# Altium footprint library IND 0201.PcbLib: 1 footprints
Each footprint in its own frame and in the unit in brackets; x right, y up, seen from the top. Pads: shape width x height; smd on the part's side, far side on the other; paste and mask are expansions set on the pad; w line width, h text height; cw(c..) or ccw(c..) is an arc to the next point about the centre after c.
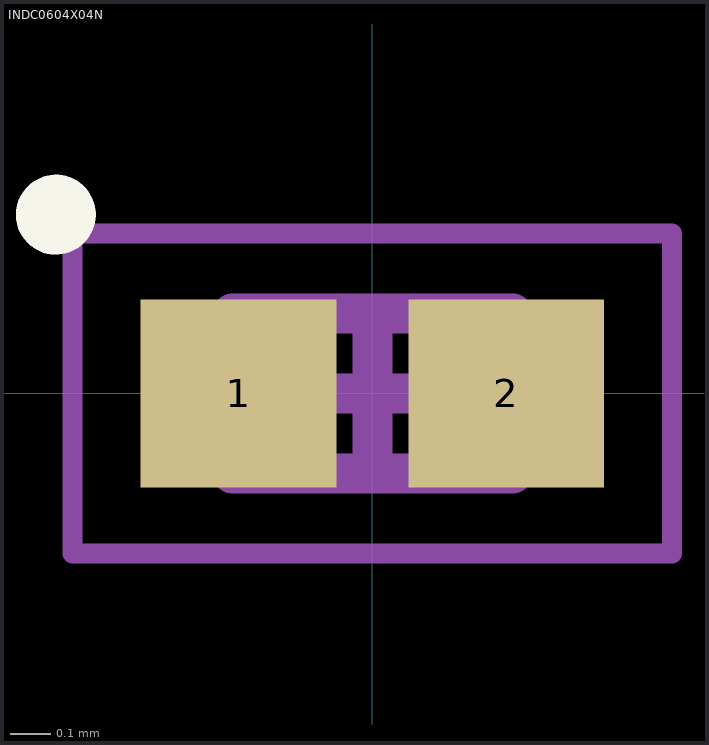
[diagram p0: the footprint, top view; thin cyan lines are the x and y axes]

## INDC0604X04N [mm] "Chip Inductor, 2-Leads, Body 0,65x0,35mm, IPC Medium Density"
height 0.35
pads (2):
  rect 0.49x0.47 smd: 1(-0.335,0) 2(0.335,0)
Top Overlay:
  circle w0.1: c-0.792,0.447 r0.05
Mechanical 13:
  lines w0.1: -0.35,-0.2 0.35,-0.2 0.35,0.2 -0.35,0.2 -0.35,-0.2
Mechanical 15:
  lines w0.05: -0.75,-0.4 0.75,-0.4 0.75,0.4 -0.75,0.4 -0.75,-0.4
  lines w0.1: -0.2,0 0.2,0 ; 0,-0.2 0,0.2
3D body "44025.stp": height 0.3, standoff 0, extent -0.3,-0.15 0.3,0.15